# Altium footprint library STM32F4DISCOVERY.PcbLib: 1 footprints
Each footprint in its own frame and in the unit in brackets; x right, y up, seen from the top. Pads: shape width x height; smd on the part's side, far side on the other; paste and mask are expansions set on the pad; w line width, h text height; cw(c..) or ccw(c..) is an arc to the next point about the centre after c.
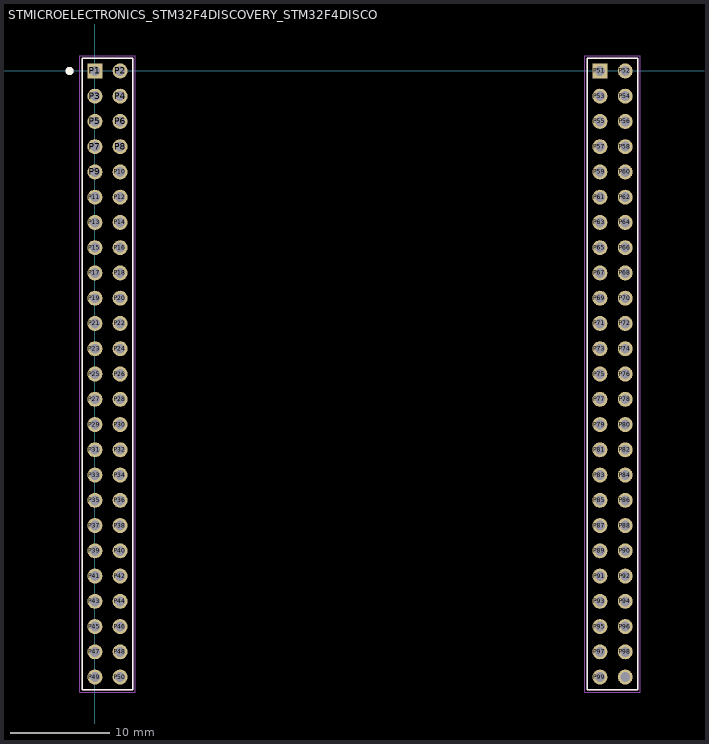
[diagram p0: the footprint, top view; thin cyan lines are the x and y axes]

## STMICROELECTRONICS_STM32F4DISCOVERY_STM32F4DISCOVERY(Primary) [mm]
pads (100):
  rect 1.508x1.508 hole 1: P1(0,0) P51(50.8,0)
  round 1.508 hole 1: P2(2.54,0) P3(0,-2.54) P4(2.54,-2.54) P5(0,-5.08) P6(2.54,-5.08) P7(0,-7.62) P8(2.54,-7.62) P9(0,-10.16) P10(2.54,-10.16) P11(0,-12.7) P12(2.54,-12.7) P13(0,-15.24) P14(2.54,-15.24) P15(0,-17.78) P16(2.54,-17.78) P17(0,-20.32) P18(2.54,-20.32) P19(0,-22.86) P20(2.54,-22.86) P21(0,-25.4) P22(2.54,-25.4) P23(0,-27.94) P24(2.54,-27.94) P25(0,-30.48) P26(2.54,-30.48) P27(0,-33.02) P28(2.54,-33.02) P29(0,-35.56) P30(2.54,-35.56) P31(0,-38.1) P32(2.54,-38.1) P33(0,-40.64) P34(2.54,-40.64) P35(0,-43.18) P36(2.54,-43.18) P37(0,-45.72) P38(2.54,-45.72) P39(0,-48.26) P40(2.54,-48.26) P41(0,-50.8) P42(2.54,-50.8) P43(0,-53.34) P44(2.54,-53.34) P45(0,-55.88) P46(2.54,-55.88) P47(0,-58.42) P48(2.54,-58.42) P49(0,-60.96) P50(2.54,-60.96) P52(53.34,0) P53(50.8,-2.54) P54(53.34,-2.54) P55(50.8,-5.08) P56(53.34,-5.08) P57(50.8,-7.62) P58(53.34,-7.62) P59(50.8,-10.16) P60(53.34,-10.16) P61(50.8,-12.7) P62(53.34,-12.7) P63(50.8,-15.24) P64(53.34,-15.24) P65(50.8,-17.78) P66(53.34,-17.78) P67(50.8,-20.32) P68(53.34,-20.32) P69(50.8,-22.86) P70(53.34,-22.86) P71(50.8,-25.4) P72(53.34,-25.4) P73(50.8,-27.94) P74(53.34,-27.94) P75(50.8,-30.48) P76(53.34,-30.48) P77(50.8,-33.02) P78(53.34,-33.02) P79(50.8,-35.56) P80(53.34,-35.56) P81(50.8,-38.1) P82(53.34,-38.1) P83(50.8,-40.64) P84(53.34,-40.64) P85(50.8,-43.18) P86(53.34,-43.18) P87(50.8,-45.72) P88(53.34,-45.72) P89(50.8,-48.26) P90(53.34,-48.26) P91(50.8,-50.8) P92(53.34,-50.8) P93(50.8,-53.34) P94(53.34,-53.34) P95(50.8,-55.88) P96(53.34,-55.88) P97(50.8,-58.42) P98(53.34,-58.42) P99(50.8,-60.96) P100(53.34,-60.96)
Top Overlay:
  circle w0.4: c-2.54,0 r0.2
  lines w0.127: -1.27,-62.23 3.81,-62.23 3.81,1.27 -1.27,1.27 -1.27,-62.23 ; 49.53,-62.23 54.61,-62.23 54.61,1.27 49.53,1.27 49.53,-62.23
Mechanical 4:
  circle w0.4: c-2.54,0 r0.2
  circle w0.4: c-2.54,0 r0.2
  lines w0.127: -1.27,-62.23 3.81,-62.23 ; -1.27,-62.23 -1.27,1.27 ; -1.27,-62.23 3.81,-62.23 ; -1.27,-62.23 -1.27,1.27 ; -1.27,1.27 3.81,1.27 ; -1.27,1.27 3.81,1.27 ; 3.81,-62.23 3.81,1.27 ; 3.81,-62.23 3.81,1.27 ; 49.53,-62.23 54.61,-62.23 ; 49.53,-62.23 49.53,1.27 ; 49.53,-62.23 54.61,-62.23 ; 49.53,-62.23 49.53,1.27 ; 49.53,1.27 54.61,1.27 ; 49.53,1.27 54.61,1.27 ; 54.61,-62.23 54.61,1.27 ; 54.61,-62.23 54.61,1.27
Mechanical 16:
  lines w0.05: -1.52,-62.48 4.06,-62.48 4.06,1.52 -1.52,1.52 -1.52,-62.48 ; 49.28,-62.48 49.28,1.52 54.86,1.52 54.86,-62.48 49.28,-62.48